# Altium footprint library adafruit.PCBLIB: 643 footprints (part 41 of 41)
Each footprint in its own frame and in the unit in brackets; x right, y up, seen from the top. Pads: shape width x height; smd on the part's side, far side on the other; paste and mask are expansions set on the pad; w line width, h text height; cw(c..) or ccw(c..) is an arc to the next point about the centre after c.
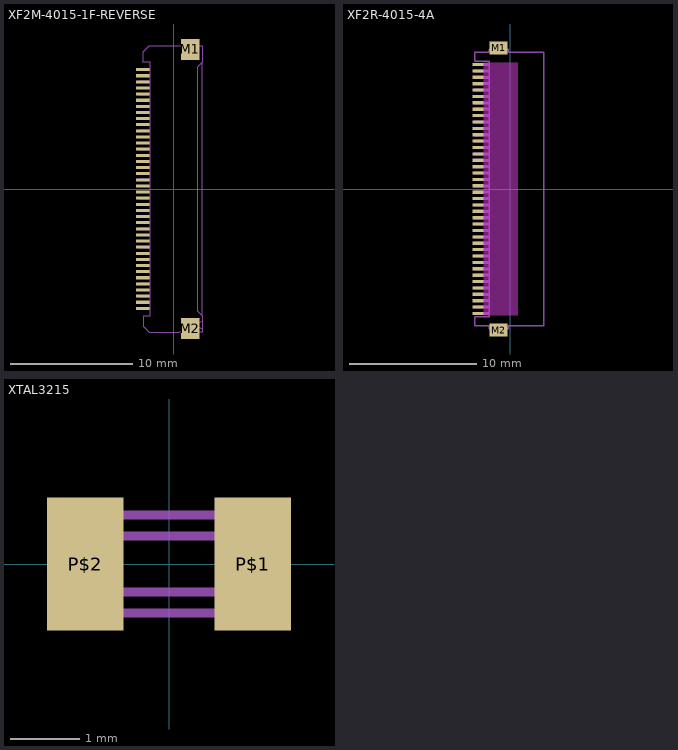
[diagram p40: the footprints below, top view; thin cyan lines are the x and y axes]

## XF2M-4015-1F-REVERSE [mil]
pads (42):
  rect 43.31x9.84 smd: 1(-100,383.86) 2(-100,364.17) 3(-100,344.49) 4(-100,324.8) 5(-100,305.12) 6(-100,285.43) 7(-100,265.75) 8(-100,246.06) 9(-100,226.38) 10(-100,206.69) 11(-100,187.01) 12(-100,167.32) 13(-100,147.64) 14(-100,127.95) 15(-100,108.27) 16(-100,88.58) 17(-100,68.9) 18(-100,49.21) 19(-100,29.53) 20(-100,9.84) 21(-100,-9.84) 22(-100,-29.53) 23(-100,-49.21) 24(-100,-68.9) 25(-100,-88.58) 26(-100,-108.27) 27(-100,-127.95) 28(-100,-147.64) 29(-100,-167.32) 30(-100,-187.01) 31(-100,-206.69) 32(-100,-226.38) 33(-100,-246.06) 34(-100,-265.75) 35(-100,-285.43) 36(-100,-305.12) 37(-100,-324.8) 38(-100,-344.49) 39(-100,-364.17) 40(-100,-383.86)
  rect 59.06x66.93 smd: M1(53.54,448.82) M2(53.54,-448.82)
tDocu:
  drawing of 55 lines, arcs and shapes, not listed
tPlace:
  lines w4: -98.03,-407.48 -98.03,-440.94 -78.35,-460.63 18.11,-460.63 ; -98.03,407.48 -98.03,440.94 -78.35,460.63 18.11,460.63 ; 90.94,-460.63 90.94,-407.48 ; 90.94,460.63 90.94,407.48 ; 90.94,-407.48 75.2,-391.73 75.2,391.73 90.94,407.48 ; 90.94,-407.48 90.94,407.48

## XF2R-4015-4A [mm]
pads (42):
  rect 0.85x0.25 smd mask+0: 1(-2.54,9.75) 2(-2.54,9.25) 3(-2.54,8.75) 4(-2.54,8.25) 5(-2.54,7.75) 6(-2.54,7.25) 7(-2.54,6.75) 8(-2.54,6.25) 9(-2.54,5.75) 10(-2.54,5.25) 11(-2.54,4.75) 12(-2.54,4.25) 13(-2.54,3.75) 14(-2.54,3.25) 15(-2.54,2.75) 16(-2.54,2.25) 17(-2.54,1.75) 18(-2.54,1.25) 19(-2.54,0.75) 20(-2.54,0.25) 21(-2.54,-0.25) 22(-2.54,-0.75) 23(-2.54,-1.25) 24(-2.54,-1.75) 25(-2.54,-2.25) 26(-2.54,-2.75) 27(-2.54,-3.25) 28(-2.54,-3.75) 29(-2.54,-4.25) 30(-2.54,-4.75) 31(-2.54,-5.25) 32(-2.54,-5.75) 33(-2.54,-6.25) 34(-2.54,-6.75) 35(-2.54,-7.25) 36(-2.54,-7.75) 37(-2.54,-8.25) 38(-2.54,-8.75) 39(-2.54,-9.25) 40(-2.54,-9.75)
  rect 1.4x1 smd: M1(-0.915,11.05) M2(-0.915,-11.05)
Top keep-out:
  region: 0.585,9.875 0.585,-9.875 -2.09,-9.875 -2.09,9.875
Top Solder:
  drawing of 40 lines, arcs and shapes, not listed
tDocu:
  drawing of 62 lines, arcs and shapes, not listed
tPlace:
  lines w0.102: -1.665,-10.725 -2.765,-10.725 -2.765,-10 -1.665,-10 -1.665,10 -2.765,10 -2.765,10.725 -1.665,10.725 ; -0.165,-10.725 2.635,-10.725 2.635,10.725 -0.165,10.725

## XTAL3215 [mil]
pads (2):
  rect 43.31x74.8 smd: P$1(47.24,0) P$2(-47.24,0)
tPlace:
  lines w5: -62.99,-16.43 ccw(c-51.86,-16.43) -51.86,-27.56 51.86,-27.56 ccw(c51.86,-16.43) 62.99,-16.43 62.99,15.11 ccw(c50.54,15.11) 50.54,27.56 -54.19,27.56 ccw(c-54.19,18.76) -62.99,18.76 -62.99,-16.43 ; -51.18,-7.87 ccw(c-41.34,-5.91) -39.37,-15.75 39.37,-15.75 ccw(c39.37,-3.94) 51.18,-3.94 51.18,3.94 ccw(c39.37,3.94) 39.37,15.75 -43.31,15.75 ccw(c-41.34,5.91) -51.18,3.94 -51.18,-7.87